# Altium footprint library S100 PCBLib.PcbLib: 24 footprints (part 1 of 2)
Each footprint in its own frame and in the unit in brackets; x right, y up, seen from the top. Pads: shape width x height; smd on the part's side, far side on the other; paste and mask are expansions set on the pad; w line width, h text height; cw(c..) or ccw(c..) is an arc to the next point about the centre after c.
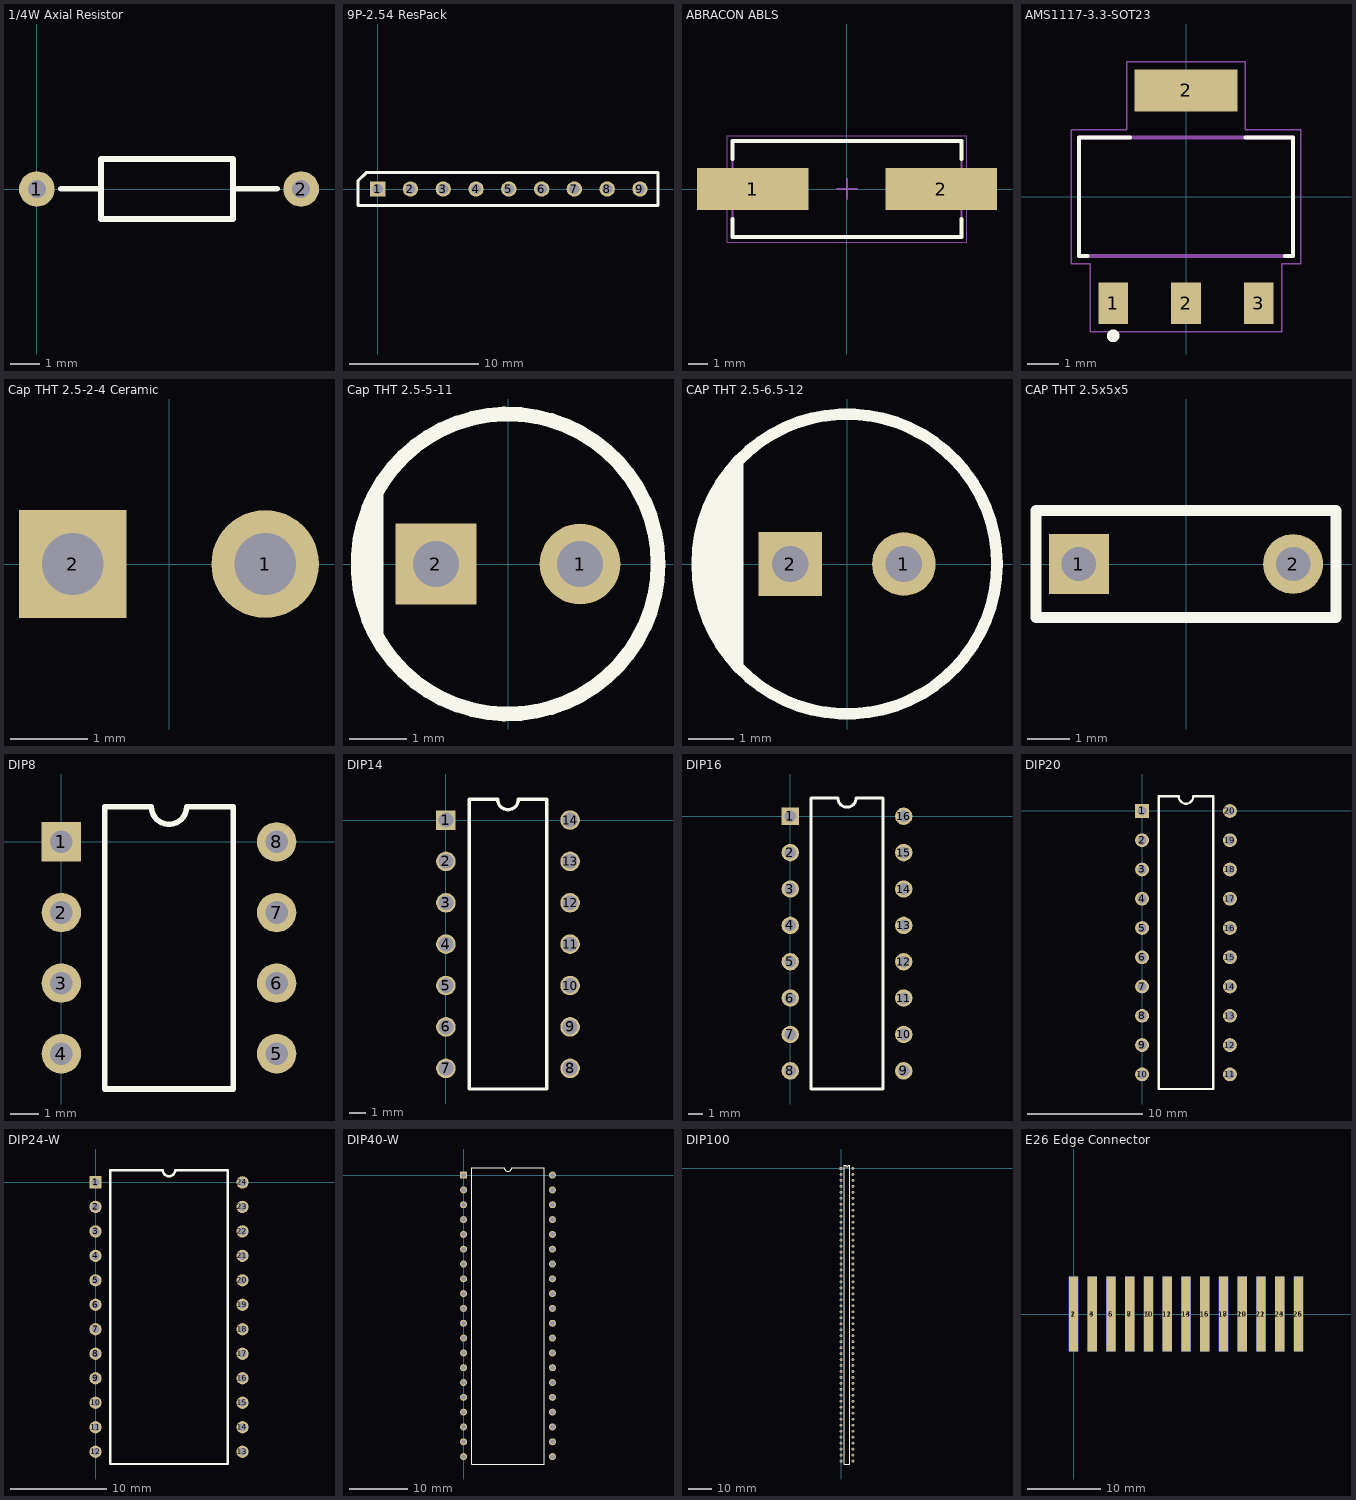
[diagram p0: the footprints below, top view; thin cyan lines are the x and y axes]

## 1/4W Axial Resistor [mm]
pads (2):
  round 1.2 hole 0.6: 1(0,0) 2(8.89,0)
Top Overlay:
  lines w0.2: 0.819,0.008 2.159,0.008 ; 6.604,0.008 8.078,0.008 ; 2.159,-1.016 2.159,1.016 6.604,1.016 6.604,-1.016 2.159,-1.016
3D body "rcil-h_p9_l6-25_d2-25_h2-25.stp": height 2.26, standoff -4, extent -0.355,-1.127 9.245,1.143

## 9P-2.54 ResPack [mm]
pads (9):
  rect 1.2x1.2 hole 0.8: 1(0,0)
  round 1.2 hole 0.8: 2(2.54,0) 3(5.08,0) 4(7.62,0) 5(10.16,0) 6(12.7,0) 7(15.24,0) 8(17.78,0) 9(20.32,0)
Top Overlay:
  lines w0.254: -1.524,-1.27 -1.524,0.635 -0.889,1.27 21.717,1.27 21.717,-1.27 -1.524,-1.27
3D body "4609m.stp": height 6.22, standoff -3.43, extent -1.245,-1.214 21.565,1.27

## ABRACON ABLS [mm] "Crystal, 2-Leads, Body 4.70x11.40mm, Pitch 8.80mm, IPC Medium Density"
height 4.2
pads (2):
  rect 5.6x2.1 smd: 1(-4.75,0) 2(4.75,0)
Top Overlay:
  lines w0.2: -5.775,-1.5 -5.775,-2.425 5.775,-2.425 5.775,-1.5 ; -5.775,1.5 -5.775,2.425 5.775,2.425 5.775,1.5
Mechanical 13:
  lines w0.1: -5.775,-2.425 -5.775,2.425 5.775,2.425 5.775,-2.425 -5.775,-2.425
Mechanical 15:
  lines w0.05: -6.025,-2.675 -6.025,2.675 6.025,2.675 6.025,-2.675 -6.025,-2.675
  lines w0.1: -0.5,0 0.5,0 ; 0,-0.5 0,0.5
3D body "HC49US SMT Crystal.STEP": height 4.2, standoff 0, extent -6.35,-2.35 6.35,2.35

## AMS1117-3.3-SOT23 [mm]
pads (4):
  rect 0.93x1.31 smd: 1(-2.29,-3.345) 2(0,-3.345) 3(2.29,-3.345)
  rect 3.24x1.31 smd: 2(0,3.345)
Top Overlay:
  circle w0.2: c-2.29,-4.373 r0.1
  lines w0.127: -3.1,-1.86 -3.36,-1.86 -3.36,1.86 -1.76,1.86 ; 1.87,1.86 3.36,1.86 3.36,-1.86 3.11,-1.86
Mechanical 4:
  lines w0.127: -3.36,-1.86 -3.36,1.86 ; -3.36,-1.86 3.36,-1.86 ; -3.36,-1.86 -3.36,1.86 ; -3.36,-1.86 3.36,-1.86 ; -3.36,1.86 3.36,1.86 ; -3.36,1.86 3.36,1.86 ; 3.36,-1.86 3.36,1.86 ; 3.36,-1.86 3.36,1.86
Mechanical 16:
  lines w0.05: -3.61,-2.11 -3.61,2.11 -1.87,2.11 -1.87,4.25 1.87,4.25 1.87,2.11 3.61,2.11 3.61,-2.11 3.01,-2.11 3.01,-4.25 -3.01,-4.25 -3.01,-2.11 -3.61,-2.11
3D body "AMS1117.stp": height 1.5, standoff 0, extent -3.25,-3.5 3.25,3.5

## Cap THT 2.5-2-4 Ceramic [mm]
height 4
pads (2):
  round 1.4 hole 0.8: 1(1.25,0)
  rect 1.4x1.4 hole 0.8: 2(-1.25,0)

## Cap THT 2.5-5-11 [mm] "Capacitor 5mm Radius x 2.5mm lead spacing 11.5mm Height"
height 11.5
pads (2):
  round 1.4 hole 0.8: 1(1.25,0)
  rect 1.4x1.4 hole 0.8: 2(-1.25,0)
Top Overlay:
  circle w0.254: c0,0 r2.6
  region: -2.159,1.333 -2.159,-1.355 -2.413,-1.016 -2.54,0.762
3D body "cpol-v_p2-5_d6-5_h11-5.stp": height 11.51, standoff -3.35, extent -3.255,-3.247 3.25,3.247

## CAP THT 2.5-6.5-12 [mm]
pads (2):
  round 1.4 hole 0.8: 1(1.25,0)
  rect 1.4x1.4 hole 0.8: 2(-1.25,0)
Top Overlay:
  circle w0.254: c0,0 r3.3
  region: -2.286,2.413 -2.286,-2.413 -2.921,-1.778 -2.921,-1.651 -3.048,-1.524 -3.048,-0.889 -3.302,-0.635 -3.302,0.889 -3.048,1.143
  region: -2.032,2.54
3D body "cpol-v_p2-5_d6-5_h11-5.stp": height 11.51, standoff -3.35, extent -3.255,-3.247 3.25,3.247

## CAP THT 2.5x5x5 [mm]
pads (2):
  rect 1.4x1.4 hole 0.8: 1(-2.5,0)
  round 1.4 hole 0.8: 2(2.5,0)
Top Overlay:
  lines w0.254: -3.5,-1.25 -3.5,1.25 3.5,1.25 3.5,-1.25 -3.5,-1.25
3D body: height 6.5, standoff 0.5, extent -3.556,-1.27 3.429,1.27

## DIP8 [mm]
pads (8):
  rect 1.4x1.4 hole 0.8: 1(0,0)
  round 1.4 hole 0.8: 2(0,-2.5) 3(0,-5) 4(0,-7.5) 5(7.62,-7.5) 6(7.62,-5) 7(7.62,-2.5) 8(7.62,0)
Top Overlay:
  lines w0.2: 1.535,-8.75 1.535,1.25 3.185,1.25 ccw(c3.81,1.25) 4.435,1.25 6.085,1.25 6.085,-8.75 1.535,-8.75
3D body "IC DIP 8-pin.step": height 4.55, standoff -2, extent -0.15,-8.71 7.77,1.09

## DIP14 [mm]
pads (14):
  rect 1.2x1.2 / inner rect 2.5x1.2 / far side rect 1.2x1.2 hole 0.9: 1(0,0)
  round 1.2 / inner oval 2.5x1.2 / far side round 1.2 hole 0.9: 2(0,-2.54) 3(0,-5.08) 4(0,-7.62) 5(0,-10.16) 6(0,-12.7) 7(0,-15.24) 8(7.62,-15.24) 9(7.62,-12.7) 10(7.62,-10.16) 11(7.62,-7.62) 12(7.62,-5.08) 13(7.62,-2.54) 14(7.62,0)
Top Overlay:
  lines w0.2: 1.435,-16.51 6.185,-16.51 6.185,1.27 4.445,1.27 cw(c3.81,1.27) 3.175,1.27 1.435,1.27 1.435,-16.51
3D body "DIP14.STEP": height 4.95, standoff -2.35, extent -0.125,-16.33 7.745,1.09

## DIP16 [mm]
pads (16):
  rect 1.2x1.2 hole 0.8: 1(0,0)
  round 1.2 hole 0.8: 2(0,-2.5) 3(0,-5) 4(0,-7.5) 5(0,-10) 6(0,-12.5) 7(0,-15) 8(0,-17.5) 9(7.8,-17.5) 10(7.8,-15) 11(7.8,-12.5) 12(7.8,-10) 13(7.8,-7.5) 14(7.8,-5) 15(7.8,-2.5) 16(7.8,0)
Top Overlay:
  lines w0.2: 1.435,-18.75 1.435,1.25 3.275,1.25 ccw(c3.9,1.25) 4.525,1.25 6.365,1.25 6.365,-18.75 1.435,-18.75
3D body "IC DIP 16-pin.step": height 4.55, standoff -2, extent -0.023,-18.743 7.897,1.217

## DIP20 [mm]
pads (20):
  rect 1.2x1.2 hole 0.8: 1(0,0)
  round 1.2 hole 0.8: 2(0,-2.54) 3(0,-5.08) 4(0,-7.62) 5(0,-10.16) 6(0,-12.7) 7(0,-15.24) 8(0,-17.78) 9(0,-20.32) 10(0,-22.86) 11(7.62,-22.86) 12(7.62,-20.32) 13(7.62,-17.78) 14(7.62,-15.24) 15(7.62,-12.7) 16(7.62,-10.16) 17(7.62,-7.62) 18(7.62,-5.08) 19(7.62,-2.54) 20(7.62,0)
Top Overlay:
  lines w0.2: 1.435,-24.13 1.435,1.27 3.175,1.27 ccw(c3.81,1.27) 4.445,1.27 6.185,1.27 6.185,-24.13 1.435,-24.13
3D body "74HC245_DIP20_TOSHIBA_MODEL.STEP": height 4.21, standoff -3.1, extent -0.065,-23.706 7.805,0.894

## DIP24-W [mil]
pads (24):
  rect 50x50 hole 32: 1(0,0)
  round 50 hole 32: 2(0,-100) 3(0,-200) 4(0,-300) 5(0,-400) 6(0,-500) 7(0,-600) 8(0,-700) 9(0,-800) 10(0,-900) 11(0,-1000) 12(0,-1100) 13(600,-1100) 14(600,-1000) 15(600,-900) 16(600,-800) 17(600,-700) 18(600,-600) 19(600,-500) 20(600,-400) 21(600,-300) 22(600,-200) 23(600,-100) 24(600,0)
Top Overlay:
  lines w10: 60,-1150 60,50 275,50 ccw(c300,50) 325,50 540,50 540,-1150 60,-1150
3D body "IC DIP Wide 24-pin.step": height 200.79, standoff -78.74, extent -5.9,-1137.91 605.91,47.91

## DIP40-W [mm]
pads (40):
  rect 1.2x1.2 hole 0.8: 1(0,0)
  round 1.2 hole 0.8: 2(0,-2.54) 3(0,-5.08) 4(0,-7.62) 5(0,-10.16) 6(0,-12.7) 7(0,-15.24) 8(0,-17.78) 9(0,-20.32) 10(0,-22.86) 11(0,-25.4) 12(0,-27.94) 13(0,-30.48) 14(0,-33.02) 15(0,-35.56) 16(0,-38.1) 17(0,-40.64) 18(0,-43.18) 19(0,-45.72) 20(0,-48.26) 21(15.24,-48.26) 22(15.24,-45.72) 23(15.24,-43.18) 24(15.24,-40.64) 25(15.24,-38.1) 26(15.24,-35.56) 27(15.24,-33.02) 28(15.24,-30.48) 29(15.24,-27.94) 30(15.24,-25.4) 31(15.24,-22.86) 32(15.24,-20.32) 33(15.24,-17.78) 34(15.24,-15.24) 35(15.24,-12.7) 36(15.24,-10.16) 37(15.24,-7.62) 38(15.24,-5.08) 39(15.24,-2.54) 40(15.24,0)
Top Overlay:
  lines w0.2: 1.435,-49.53 1.435,1.27 6.985,1.27 ccw(c7.62,1.27) 8.255,1.27 13.805,1.27 13.805,-49.53 1.435,-49.53
3D body "DIP40 & Socket.stp": height 8.11, standoff -3.17, extent -1.23,-50.248 16.47,2.012

## DIP100 [mm]
pads (100):
  rect 1.2x1.2 hole 0.8: 1(0,0)
  round 1.2 hole 0.8: 2(0,-2.54) 3(0,-5.08) 4(0,-7.62) 5(0,-10.16) 6(0,-12.7) 7(0,-15.24) 8(0,-17.78) 9(0,-20.32) 10(0,-22.86) 11(0,-25.4) 12(0,-27.94) 13(0,-30.48) 14(0,-33.02) 15(0,-35.56) 16(0,-38.1) 17(0,-40.64) 18(0,-43.18) 19(0,-45.72) 20(0,-48.26) 21(0,-50.8) 22(0,-53.34) 23(0,-55.88) 24(0,-58.42) 25(0,-60.96) 26(0,-63.5) 27(0,-66.04) 28(0,-68.58) 29(0,-71.12) 30(0,-73.66) 31(0,-76.2) 32(0,-78.74) 33(0,-81.28) 34(0,-83.82) 35(0,-86.36) 36(0,-88.9) 37(0,-91.44) 38(0,-93.98) 39(0,-96.52) 40(0,-99.06) 41(0,-101.6) 42(0,-104.14) 43(0,-106.68) 44(0,-109.22) 45(0,-111.76) 46(0,-114.3) 47(0,-116.84) 48(0,-119.38) 49(0,-121.92) 50(0,-124.46) 51(5.08,0) 52(5.08,-2.54) 53(5.08,-5.08) 54(5.08,-7.62) 55(5.08,-10.16) 56(5.08,-12.7) 57(5.08,-15.24) 58(5.08,-17.78) 59(5.08,-20.32) 60(5.08,-22.86) 61(5.08,-25.4) 62(5.08,-27.94) 63(5.08,-30.48) 64(5.08,-33.02) 65(5.08,-35.56) 66(5.08,-38.1) 67(5.08,-40.64) 68(5.08,-43.18) 69(5.08,-45.72) 70(5.08,-48.26) 71(5.08,-50.8) 72(5.08,-53.34) 73(5.08,-55.88) 74(5.08,-58.42) 75(5.08,-60.96) 76(5.08,-63.5) 77(5.08,-66.04) 78(5.08,-68.58) 79(5.08,-71.12) 80(5.08,-73.66) 81(5.08,-76.2) 82(5.08,-78.74) 83(5.08,-81.28) 84(5.08,-83.82) 85(5.08,-86.36) 86(5.08,-88.9) 87(5.08,-91.44) 88(5.08,-93.98) 89(5.08,-96.52) 90(5.08,-99.06) 91(5.08,-101.6) 92(5.08,-104.14) 93(5.08,-106.68) 94(5.08,-109.22) 95(5.08,-111.76) 96(5.08,-114.3) 97(5.08,-116.84) 98(5.08,-119.38) 99(5.08,-121.92) 100(5.08,-124.46)
Top Overlay:
  lines w0.2: 1.435,-125.73 1.435,1.27 1.905,1.27 ccw(c2.54,1.27) 3.175,1.27 3.645,1.27 3.645,-125.73 1.435,-125.73

## E26 Edge Connector [mil] "26 Pin Edge Connector"
pads (26):
  rect 50x400 smd: 1(0,0) 3(100,0) 5(200,0) 7(300,0) 9(400,0) 11(500,0) 13(600,0) 15(700,0) 17(800,0) 19(900,0) 21(1000,0) 23(1100,0) 25(1200,0)
  rect 50x400 smd far side: 2(0,0) 4(100,0) 6(200,0) 8(300,0) 10(400,0) 12(500,0) 14(600,0) 16(700,0) 18(800,0) 20(900,0) 22(1000,0) 24(1100,0) 26(1200,0)
Top Solder:
  rectangle: -88.98,-216.54 1288.98,216.54
Bottom Solder:
  rectangle: -88.98,-216.54 1288.98,216.54